# Altium schematic symbol library Header 1x8.SchLib: 1 symbol
Pins are listed as number, name and electrical type; pins without a type are passive.

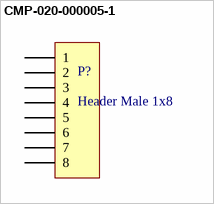
[diagram p0: symbol CMP-020-000005-1]

## CMP-020-000005-1
designator P?, comment Header Male 1x8
Headers & Wire Housings 36Pin 2mm Spacing Single Row Hdrs, 5pc; Design Item ID: Header Male 1x8; Source: Conectores_SCHLIB.SchLib
footprint Pin Header 1x8 TH Pitch 2.54mm (PinHeader 1x8 TH Pitch 2.54mm)
footprint Pin Header 1x8 TH Pitch 2.54mm (PinHeader 1x8 TH Pitch 2.54mm)
pins: 1, 2, 3, 4, 5, 6, 7, 8